# Altium schematic symbol library TI HDC1080.SchLib: 1 symbol
Pins are listed as number, name and electrical type; pins without a type are passive.

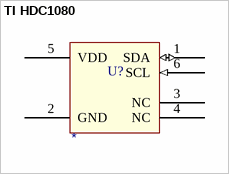
[diagram p0: symbol TI HDC1080]

## TI HDC1080
designator U?
Part Number: *
pins: 1 SDA (io), 2 GND (power), 3 NC, 4 NC, 5 VDD (power), 6 SCL (in)